# EAGLE library part PINHD2-1X6 (library pinhead)
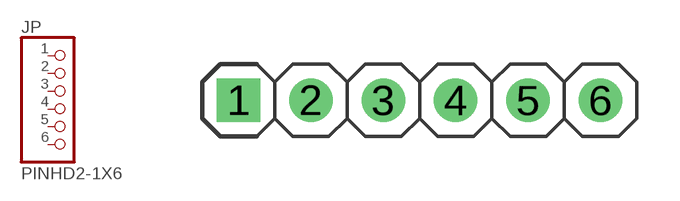
[diagram p1: symbol with the pads of 1X6; footprint 1X6]

Designator prefix JP

## PINHD2-1X6  [1X6]
1  1  pas
2  2  pas
3  3  pas
4  4  pas
5  5  pas
6  6  pas

## Footprint 1X6 (pad centres in mm)
drill 1.016 square: 1 -6.35,0
drill 1.016: 2 -3.81,0; 3 -1.27,0; 4 1.27,0; 5 3.81,0; 6 6.35,0